# Altium schematic symbol library 53261-0671.SchLib: 1 symbol
Pins are listed as number, name and electrical type; pins without a type are passive.

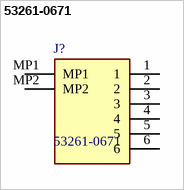
[diagram p0: symbol 53261-0671]

## 53261-0671
designator J?
1.25mm Pitch, PicoBlade PCB Header, Single Row, Right-Angle, Surface Mount, Tin (Sn) Plating, Friction Lock,  Circuits, Tape and Reel; Manufacturer_Name: Molex; Geometry.Height: 3.6mm; Mouser Part Number: 538-53261-0671; Mouser Price/Stock: https://www.mouser.co.uk/ProductDetail/Molex/53261-0671?qs=%252B72YyncTwW9Wyr77z4J2cA%3D%3D; Manufacturer_Part_Number: 53261-0671; Datasheet Link: https://www.molex.com/pdm_docs/sd/532610671_sd.pdf
footprint 532610671
pins: 1, 2, 3, 4, 5, 6, MP1, MP2